# Altium footprint library SOT 23.PcbLib: 16 footprints
Each footprint in its own frame and in the unit in brackets; x right, y up, seen from the top. Pads: shape width x height; smd on the part's side, far side on the other; paste and mask are expansions set on the pad; w line width, h text height; cw(c..) or ccw(c..) is an arc to the next point about the centre after c.
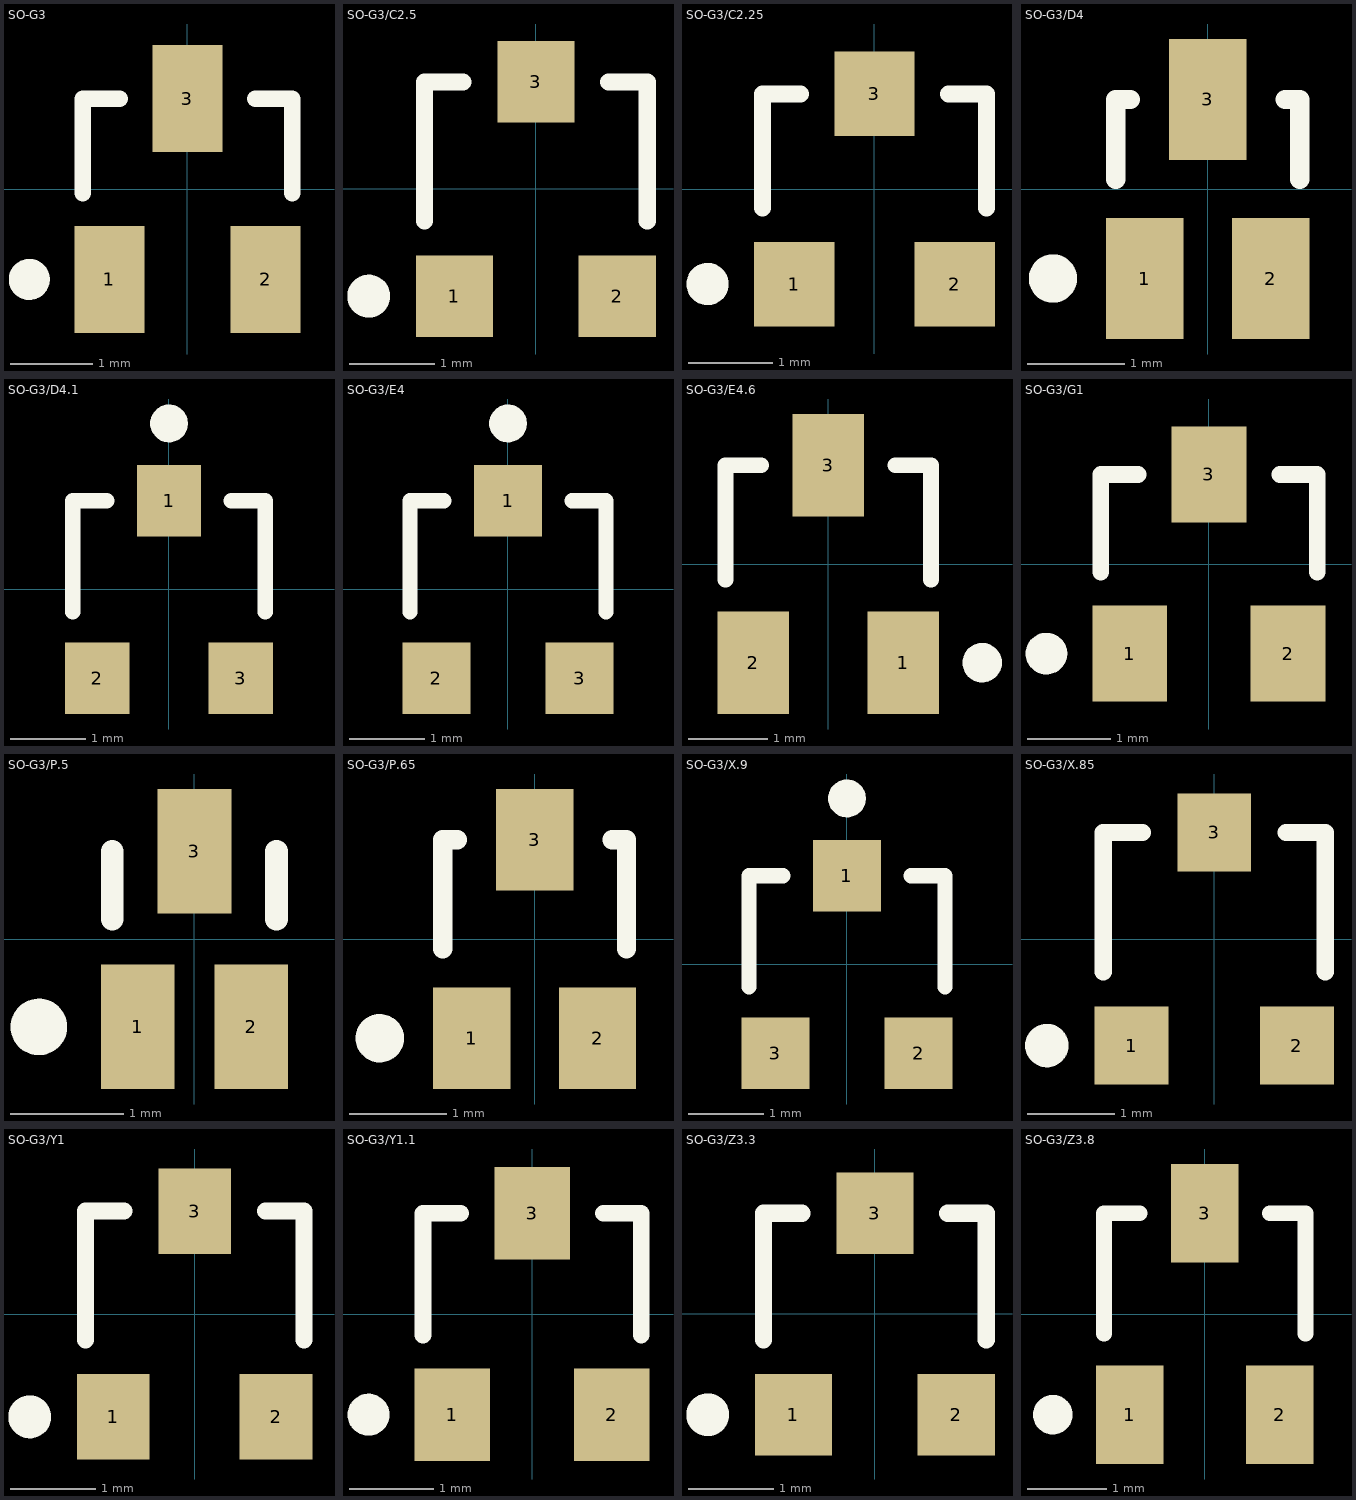
[diagram p0: the footprints below, top view; thin cyan lines are the x and y axes]

## SO-G3 [mm] "SOT-23; 3 Leads; Body 3.0 x 2.6 mm, inc. leads (LxW max)"
height 1.1
pads (3):
  rect 0.85x1.3 smd: 1(-0.95,-1.1) 2(0.95,-1.1) 3(0,1.1)
Top Overlay:
  circle w0.25: c-1.925,-1.1 r0.125
  lines w0.2: -1.275,-0.05 -1.275,1.1 -0.825,1.1 ; 0.825,1.1 1.275,1.1 1.275,-0.05

## SO-G3/C2.5 [mm] "SOT-23; 3 Leads; Body 3.0 x 2.6 mm, inc. leads (LxW max)"
height 1.12
pads (3):
  rect 0.9x0.95 smd: 1(-0.95,-1.25) 2(0.95,-1.25) 3(0,1.25)
Top Overlay:
  circle w0.25: c-1.95,-1.25 r0.125
  lines w0.2: -1.3,-0.375 -1.3,1.25 -0.85,1.25 ; 0.85,1.25 1.3,1.25 1.3,-0.375

## SO-G3/C2.25 [mm] "SOT-23; 3 Leads; Body 3.0 x 2.5 mm, inc. leads (LxW max)"
height 1.2
pads (3):
  rect 0.95x1 smd: 1(-0.95,-1.125) 2(0.95,-1.125) 3(0,1.125)
Top Overlay:
  circle w0.25: c-1.975,-1.125 r0.125
  lines w0.2: -1.328,1.125 -0.875,1.125 ; -1.325,-0.225 -1.325,1.125 ; 0.875,1.125 1.325,1.125 1.325,-0.225

## SO-G3/D4 [mm] "SOT-323/SC-70; 3 Leads; Body 2.2 x 2.2 mm, inc. leads (LxW max)"
height 1.25
pads (3):
  rect 0.8x1.25 smd: 1(-0.65,-0.925) 2(0.65,-0.925) 3(0,0.925)
Top Overlay:
  circle w0.25: c-1.6,-0.925 r0.125
  lines w0.2: -0.95,0.1 -0.95,0.925 -0.8,0.925 ; 0.8,0.925 0.95,0.925 0.95,0.1

## SO-G3/D4.1 [mm] "SOT-23; 3 Leads; Body 3.0 x 2.5 mm, inc. leads (LxW max), Alternate Lead Configuration"
height 1.05
pads (3):
  rect 0.85x0.95 smd: 1(0,1.175) 2(-0.95,-1.175) 3(0.95,-1.175)
Top Overlay:
  circle w0.25: c0,2.2 r0.125
  lines w0.2: -1.275,-0.3 -1.275,1.175 -0.825,1.175 ; 0.825,1.175 1.275,1.175 1.275,-0.3

## SO-G3/E4 [mm] "SOT-23; 3 Leads; Body 3.0 x 2.5 mm, inc. leads (LxW max), Alternate Lead Configuration"
height 1.1
pads (3):
  rect 0.9x0.95 smd: 1(0,1.175) 2(-0.95,-1.175) 3(0.95,-1.175)
Top Overlay:
  circle w0.25: c0,2.2 r0.125
  lines w0.2: -1.3,-0.3 -1.3,1.175 -0.85,1.175 ; 0.85,1.175 1.3,1.175 1.3,-0.3

## SO-G3/E4.6 [mm] "SOT-23; 3 Leads; Body 3.1 x 3.0 mm, inc. leads (LxW max), Alternate Lead Configuration"
height 1.3
pads (3):
  rect 0.9x1.3 smd: 1(0.95,-1.25) 2(-0.95,-1.25) 3(0,1.25)
Top Overlay:
  circle w0.25: c1.95,-1.25 r0.125
  lines w0.2: -1.3,-0.2 -1.3,1.25 -0.85,1.25 ; 0.85,1.25 1.3,1.25 1.3,-0.2

## SO-G3/G1 [mm] "SOT-23; 3 Leads; Body 3.0 x 2.5 mm, inc. leads (LxW max)"
height 1.09
pads (3):
  rect 0.9x1.15 smd: 1(-0.95,-1.075) 2(0.95,-1.075) 3(0,1.075)
Top Overlay:
  circle w0.25: c-1.95,-1.075 r0.125
  lines w0.2: -1.3,-0.1 -1.3,1.075 -0.85,1.075 ; 0.85,1.075 1.3,1.075 1.3,-0.1

## SO-G3/P.5 [mm] "SOT-416/SC-90/SC-75; 3 Leads; Body 1.8 x 1.8 mm, inc. leads (LxW max)"
height 0.9
pads (3):
  rect 0.65x1.1 smd: 1(-0.5,-0.775) 2(0.5,-0.775) 3(0,0.775)
Top Overlay:
  circle w0.25: c-1.375,-0.777 r0.125
  lines w0.2: -0.725,0.175 -0.725,0.775 ; 0.725,0.175 0.725,0.775

## SO-G3/P.65 [mm] "SOT-323/SC-70; 3 Leads; Body 2.2 x 2.2 mm, inc. leads (LxW max)"
height 1
pads (3):
  rect 0.8x1.05 smd: 1(-0.65,-1.025) 2(0.65,-1.025) 3(0,1.025)
Top Overlay:
  circle w0.25: c-1.6,-1.025 r0.125
  lines w0.2: -0.95,-0.1 -0.95,1.025 -0.8,1.025 ; 0.8,1.025 0.95,1.025 0.95,-0.1

## SO-G3/X.9 [mm] "SOT-23; 3 Leads; Body 3.1 x 2.5 mm, inc. leads (LxW max), Alternate Lead Configuration"
height 1.1
pads (3):
  rect 0.9x0.95 smd: 1(0,1.175) 2(0.95,-1.175) 3(-0.95,-1.175)
Top Overlay:
  circle w0.25: c0,2.2 r0.125
  lines w0.2: -1.3,-0.3 -1.3,1.175 -0.85,1.175 ; 0.85,1.175 1.3,1.175 1.3,-0.3

## SO-G3/X.85 [mm] "SOT-23; 3 Leads; Body 3.0 x 2.5 mm, inc. leads (LxW max)"
height 1.14
pads (3):
  rect 0.85x0.9 smd: 1(-0.95,-1.225) 2(0.95,-1.225) 3(0,1.225)
Top Overlay:
  circle w0.25: c-1.925,-1.225 r0.125
  lines w0.2: -1.275,-0.375 -1.275,1.225 -0.825,1.225 ; 0.825,1.225 1.275,1.225 1.275,-0.375

## SO-G3/Y1 [mm] "SOT-23; 3 Leads; Body 3.1 x 2.5 mm, inc. leads (LxW max)"
height 1.09
pads (3):
  rect 0.85x1 smd: 1(-0.95,-1.2) 2(0.95,-1.2) 3(0,1.2)
Top Overlay:
  circle w0.25: c-1.925,-1.2 r0.125
  lines w0.2: -1.275,-0.3 -1.275,1.2 -0.825,1.2 ; 0.825,1.2 1.275,1.2 1.275,-0.3

## SO-G3/Y1.1 [mm] "SOT-23; 3 Leads; Body 3.0 x 2.6 mm, inc. leads (LxW max)"
height 1.12
pads (3):
  rect 0.9x1.1 smd: 1(-0.95,-1.2) 2(0.95,-1.2) 3(0,1.2)
Top Overlay:
  circle w0.25: c-1.95,-1.2 r0.125
  lines w0.2: -1.3,-0.25 -1.3,1.2 -0.85,1.2 ; 0.85,1.2 1.3,1.2 1.3,-0.25

## SO-G3/Z3.3 [mm] "SOT-23; 3 Leads; Body 3.0 x 2.5 mm, inc. leads (LxW max)"
height 1.12
pads (3):
  rect 0.9x0.95 smd: 1(-0.95,-1.175) 2(0.95,-1.175) 3(0,1.175)
Top Overlay:
  circle w0.25: c-1.95,-1.175 r0.125
  lines w0.2: -1.3,-0.3 -1.3,1.175 -0.85,1.175 ; 0.85,1.175 1.3,1.175 1.3,-0.3

## SO-G3/Z3.8 [mm] "SOT-23; 3 Leads; Body 3.1 x 3.0 mm, inc. leads (LxW max)"
height 1.3
pads (3):
  rect 0.85x1.25 smd: 1(-0.95,-1.275) 2(0.95,-1.275) 3(0,1.275)
Top Overlay:
  circle w0.25: c-1.925,-1.275 r0.125
  lines w0.2: -1.275,-0.25 -1.275,1.275 -0.825,1.275 ; 0.825,1.275 1.275,1.275 1.275,-0.25